# EAGLE library part MA07-1J (library joakim)
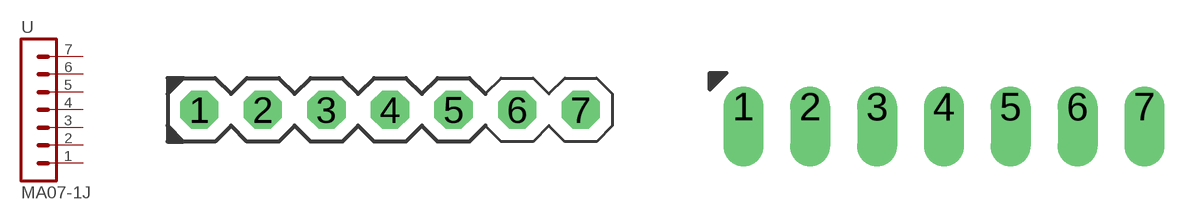
[diagram p30: symbol with the pads of MA07-1J; footprints MA07-1J, SIP-PIN07-1J]

Designator prefix -

## MA07-1JC  [MA07-1J]
1  1  pas
2  2  pas
3  3  pas
4  4  pas
5  5  pas
6  6  pas
7  7  pas

## MA07-1JP  [SIP-PIN07-1J]
Pads as for MA07-1J

## Footprint MA07-1J (pad centres in mm)
drill 1.016 octagon: 1 -7.62,0; 2 -5.08,0; 3 -2.54,0; 4 0,0; 5 2.54,0; 6 5.08,0; 7 7.62,0

## Footprint SIP-PIN07-1J (pad centres in mm)
drill 1.016 offset: 1 -7.62,0; 2 -5.08,0; 3 -2.54,0; 4 0,0; 5 2.54,0; 6 5.08,0; 7 7.62,0